# EAGLE library part 234-504/000-006 (library con-wago_234)
Serie 234, Stand: 01.01.2012. Die jeweils aktuellen Daten zu diesem Artikel finden Sie in unserem Produktkatalog, den Sie unter www.wago.com einsehen können. As of: 01/01/2012. Please find the newest data for this article in our product catalogue, which can be viewed under www.wago.com.
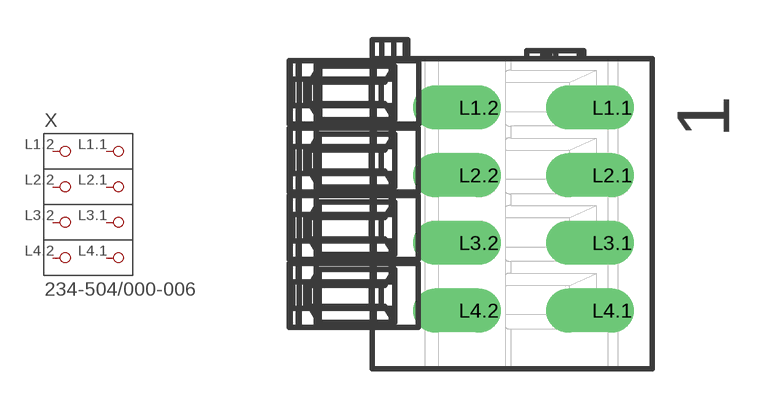
[diagram p45: symbol with the pads of P-234-504; footprint P-234-504]

Designator prefix X

## 234-504/000-006  [P-234-504]
L1.1  P1.1
L1.2  P1.2
L2.1  P2.1
L2.2  P2.2
L3.1  P3.1
L3.2  P3.2
L4.1  P4.1
L4.2  P4.2

## Footprint P-234-504 (pad centres in mm)
drill 1.1 offset: L1.1 5.303,3.64; L1.2 0.303,3.64; L2.1 5.303,1.1; L2.2 0.303,1.1; L3.1 5.303,-1.44; L3.2 0.303,-1.44; L4.1 5.303,-3.98; L4.2 0.303,-3.98